# Altium schematic symbol library Schlib_Wakefield_Vette.SchLib: 2 symbols
Pins are listed as number, name and electrical type; pins without a type are passive.

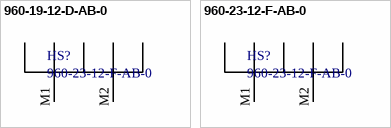
[diagram p0: symbols 960-19-12-D-AB-0 to 960-23-12-F-AB-0]

## 960-19-12-D-AB-0
designator HS?, comment 960-23-12-F-AB-0
HEATSINK 19X19X12MM DIA PUSH PIN; Manufacturer: Wakefield-Vette; PartNumber: 960-23-12-F-AB-0
footprint 960-19-12-D-AB-0 (HEATSINK 19X12MM Diagonal Pins)
pins: M1, M2

## 960-23-12-F-AB-0
designator HS?
Heatsink 23x23x12mm front push pin; Manufacturer: Wakefield-Vette; PartNumber: 960-23-12-F-AB-0
footprint 960-23-12-F-AB-0 (HEATSINK 23X12MM FRONT PUSH PIN)
pins: M1, M2